# EAGLE library part ADA4899-1 (library cdp)
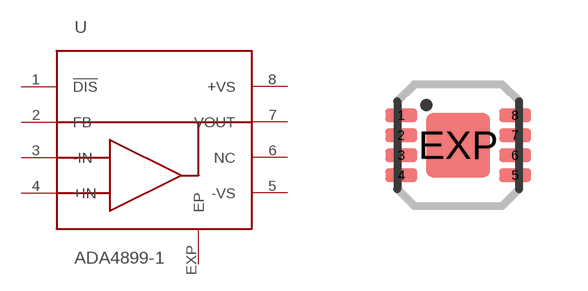
[diagram p45: symbol with the pads of LFCSP8; footprint LFCSP8]

Designator prefix U

## ADA4899-1  [LFCSP8]
1  !DIS
2  FB
3  -IN
4  +IN
5  -VS
6  NC
7  VOUT
8  +VS
EXP  EP

## Footprint LFCSP8 (pad centres in mm)
8-Lead Lead Frame Chip Scale Package LFCSP_VD 3 mm × 3 mm Body, Very Thin, Dual Lead Source: http://www.analog.com/static/imported-files/data_sheets/AD8597_8599.pdf
smd 0.8 x 0.34: 1 -1.425,0.75; 2 -1.425,0.25; 3 -1.425,-0.25; 4 -1.425,-0.75; 5 1.425,-0.75; 6 1.425,-0.25; 7 1.425,0.25; 8 1.425,0.75
smd 1.6 x 1.6: EXP 0,0